# Altium footprint library RLC Footprints.PcbLib: 68 footprints (part 5 of 5)
Each footprint in its own frame and in the unit in brackets; x right, y up, seen from the top. Pads: shape width x height; smd on the part's side, far side on the other; paste and mask are expansions set on the pad; w line width, h text height; cw(c..) or ccw(c..) is an arc to the next point about the centre after c.
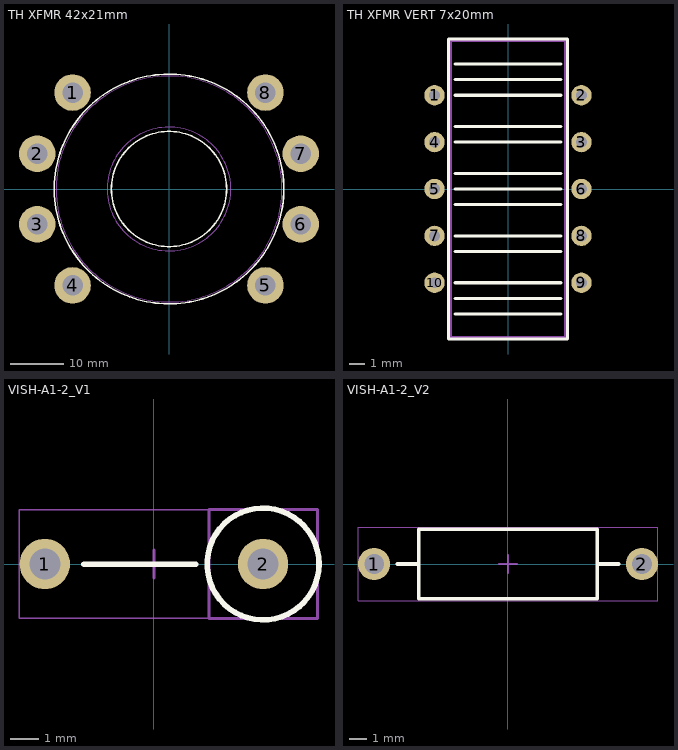
[diagram p4: the footprints below, top view; thin cyan lines are the x and y axes]

## TH XFMR 42x21mm [mm] "Transformer, ID 23mm, OD 42mm, Height 21mm"
height 21
pads (8):
  round 6.8 hole 3.8: 1(-17.918,17.918) 2(-24.477,6.558) 3(-24.477,-6.558) 4(-17.918,-17.918) 5(17.918,-17.918) 6(24.477,-6.558) 7(24.477,6.558) 8(17.918,17.918)
Top Overlay:
  circle w0.3: c0,0 r10.7
  circle w0.3: c0,0 r21.34
Mechanical 13:
  circle w0.1: c0,0 r11.5
  circle w0.1: c0,0 r21
3D body: height 21, standoff 0, extent -21,-20.994 21,20.994

## TH XFMR VERT 7x20mm [mm] "Transformer Vertical, Width 7mm, Height 21mm"
height 20
pads (10):
  round 1.3 hole 0.7 unplated paste+0: 1(-4.7,6) 2(4.7,6) 3(4.7,3) 4(-4.7,3) 5(-4.7,0) 6(4.7,0) 7(-4.7,-3) 8(4.7,-3) 9(4.7,-6) 10(-4.7,-6)
Top Overlay:
  lines w0.2: -3.4,-8 3.4,-8 ; -3.4,-7 3.4,-7 ; -3.4,-6 3.4,-6 ; -3.4,-4 3.4,-4 ; -3.4,-3 3.4,-3 ; -3.4,-1 3.4,-1 ; -3.4,0 3.4,0 ; -3.4,1 3.4,1 ; -3.4,3 3.4,3 ; -3.4,4 3.4,4 ; -3.4,6 3.4,6 ; -3.4,7 3.4,7 ; -3.4,8 3.4,8 ; -3.8,-9.6 -3.8,9.6 3.8,9.6 3.8,-9.6 -3.8,-9.6
Mechanical 13:
  lines w0.2: -3.7,-9.5 3.7,-9.5 3.7,9.5 -3.7,9.5 -3.7,-9.5
3D body: height 19.5, standoff 0.5, extent -3.5,-9.495 3.5,9.5

## VISH-A1-2_V1 [mm] "Through Hole, 2-Leads, Dia 3.9mm, Body Length 10mm, Pin Spacing 7.8mm"
height 12
pads (2):
  round 1.8 hole 1.1: 1(-3.9,0) 2(3.9,0)
Top Overlay:
  circle w0.2: c3.9,0 r2
  lines w0.2: -2.5,-0.004 1.5,-0.004
Mechanical 13:
  lines w0.1: 1.965,-1.946 5.85,-1.946 5.85,1.946 1.965,1.946 1.965,-1.946
Mechanical 15:
  lines w0.05: -4.825,-1.946 5.85,-1.946 5.85,1.946 -4.825,1.946 -4.825,-1.946
  lines w0.1: -0.5,0 0.5,0 ; 0,-0.5 0,0.5
3D body: height 10, standoff 0, extent 1.966,-1.946 5.85,1.946
3D body: height 12, standoff -2, extent -4.312,-0.414 -3.485,0.414
3D body: height 12, standoff -2, extent 3.488,-0.414 4.315,0.414
3D body: height 12.41, standoff 11.58, extent -4.311,-0.413 -3.485,0.413
3D body: height 12.41, standoff 11.58, extent 3.489,-0.413 4.315,0.413
3D body: height 12.41, standoff 11.58, extent -3.9,-0.414 3.9,0.414

## VISH-A1-2_V2 [mm] "Through Hole, 2-Leads, Dia 3.9mm, Body Length 10mm, Pin Spacing 15mm"
height 3.9
pads (2):
  round 1.8 hole 1.1: 1(-7.5,0) 2(7.5,0)
Top Overlay:
  lines w0.2: -6.2,0 -5,0 ; 5,0 6.2,0 ; -5,-1.95 5,-1.95 5,1.95 -5,1.95 -5,-1.95
Mechanical 13:
  lines w0.1: 4.996,1.95 5,1.946 5,-1.95 -5,-1.95 -5,1.95 5,1.95
Mechanical 15:
  lines w0.05: -8.4,-2.05 -8.4,2.05 8.4,2.05 8.4,-2.05 -8.4,-2.05
  lines w0.1: -0.5,0 0.5,0 ; 0,-0.5 0,0.5
3D body: height 2.36, standoff 1.54, extent -7.5,-0.414 7.5,0.414
3D body: height 2.37, standoff 1.54, extent 7.089,-0.413 7.915,0.413
3D body: height 2.37, standoff 1.54, extent -7.911,-0.413 -7.085,0.413
3D body: height 1.95, standoff -2, extent 7.088,-0.414 7.915,0.414
3D body: height 1.95, standoff -2, extent -7.912,-0.414 -7.085,0.414
3D body: height 3.88, standoff 0, extent -5,-1.946 5,1.946